# Altium footprint library ZPWL.PcbLib: 168 footprints (part 1 of 11)
Each footprint in its own frame and in the unit in brackets; x right, y up, seen from the top. Pads: shape width x height; smd on the part's side, far side on the other; paste and mask are expansions set on the pad; w line width, h text height; cw(c..) or ccw(c..) is an arc to the next point about the centre after c.
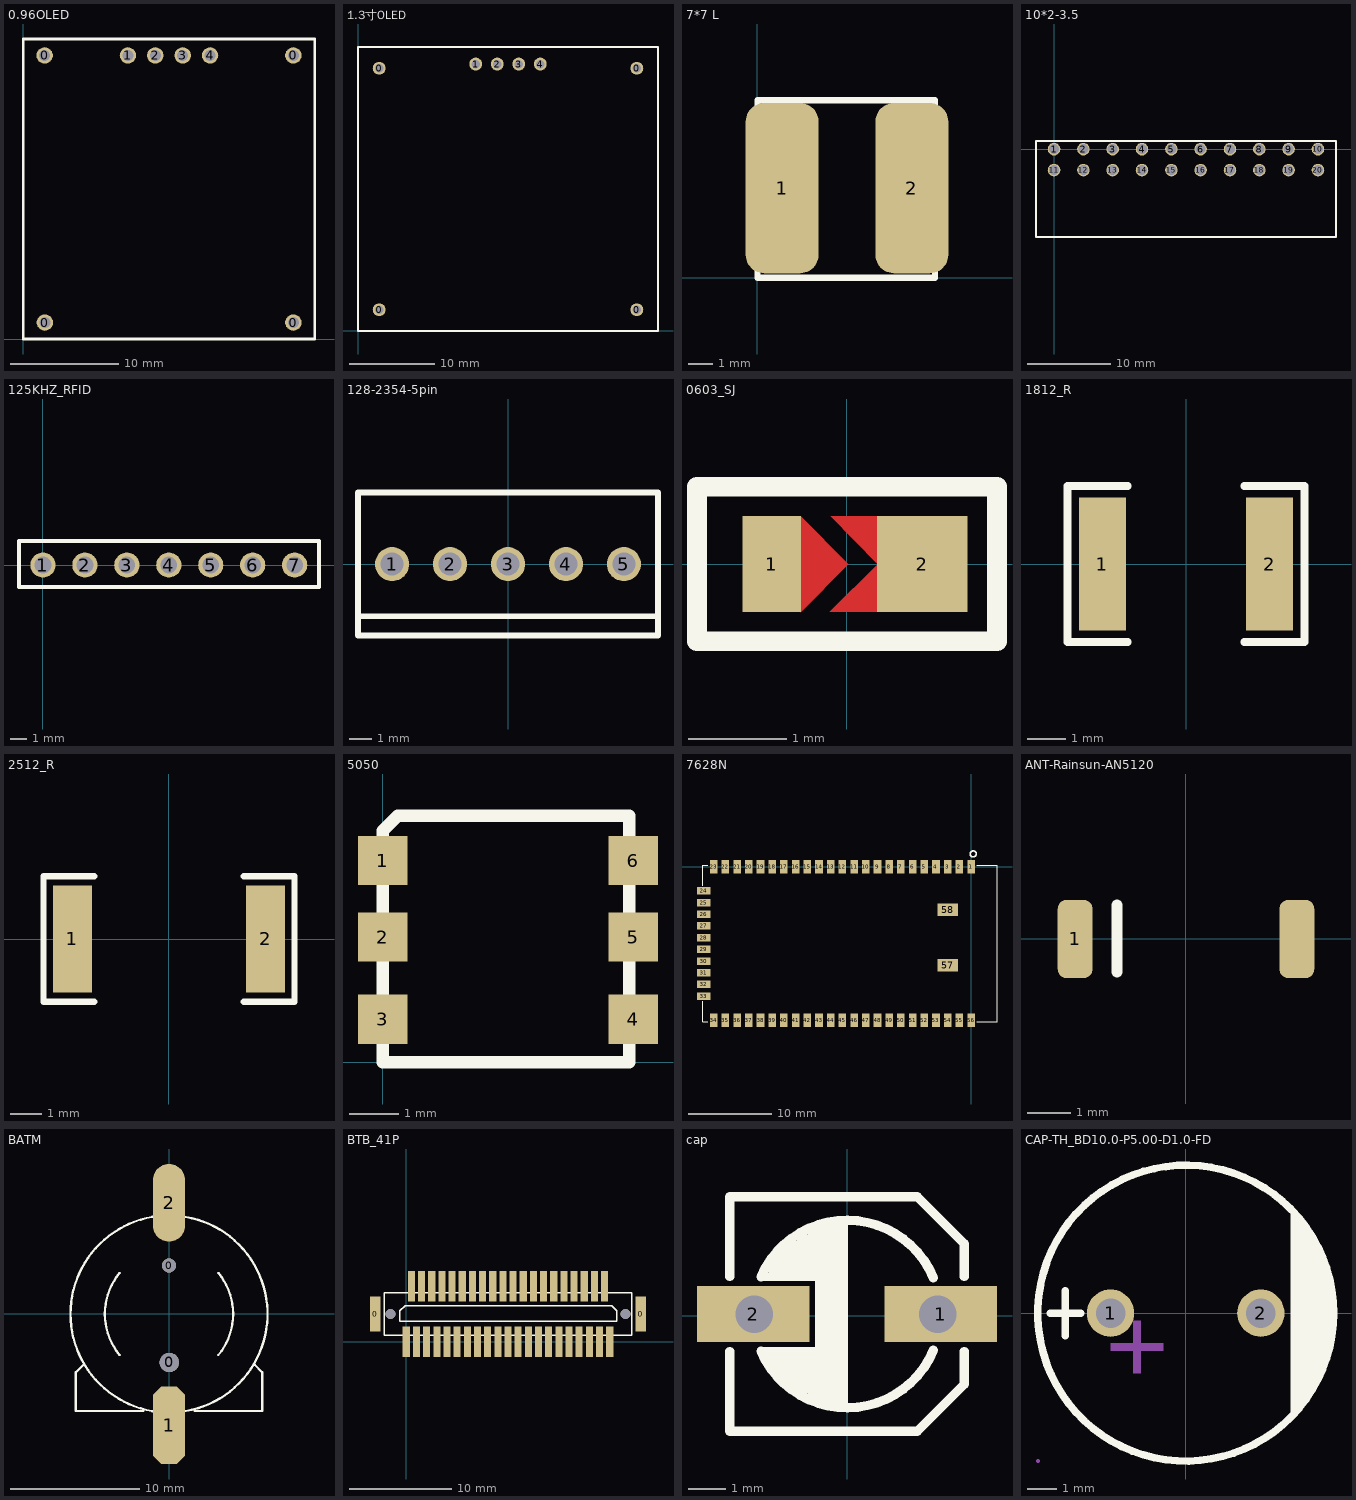
[diagram p0: the footprints below, top view; thin cyan lines are the x and y axes]

## 0.96OLED [mil]
pads (8):
  round 60 hole 40: 0(78,1035) 0(79,60) 0(986,60) 0(986,1035) 1(382,1035) 2(482,1035) 3(582,1035) 4(682,1035)
Top Overlay:
  lines w10: 0,0 0,1095 1064,1095 1064,0 0,0

## 1.3寸OLED [mil]
pads (8):
  round 60 hole 40: 0(98.43,98.43) 0(98.43,1220.47) 0(1295.28,98.43) 0(1295.28,1220.47) 1(546.85,1239.76) 2(646.85,1239.76) 3(746.85,1239.76) 4(846.85,1239.76)
Top Overlay:
  lines w10: 0,0 1393.7,0 1393.7,1318.9 0,1318.9 0,0

## 7*7 L [mm]
pads (2):
  rrect50% 3x7 smd: 1(1.016,3.683) 2(6.35,3.683)
Top Overlay:
  lines w0.254: 0,0 0,7.3 7.3,7.3 7.3,0 0,0

## 10*2-3.5 [mm]
pads (20):
  round 1.5 hole 1.2: 1(0,0) 2(3.5,0) 3(7,0) 4(10.5,0) 5(14,0) 6(17.5,0) 7(21,0) 8(24.5,0) 9(28,0) 10(31.5,0) 11(0,-2.5) 12(3.5,-2.5) 13(7,-2.5) 14(10.5,-2.5) 15(14,-2.5) 16(17.5,-2.5) 17(21,-2.5) 18(24.5,-2.5) 19(28,-2.5) 20(31.5,-2.5)
Top Overlay:
  lines w0.254: -2.15,-10.5 33.65,-10.5 33.65,1 -2.15,1 -2.15,-10.5

## 125KHZ_RFID [mil]
pads (7):
  round 60 hole 40: 1(0,0) 2(100,0) 3(200,0) 4(300,0) 5(400,0) 6(500,0) 7(600,0)
Top Overlay:
  lines w10: -57,-52 -57,57 658,57 658,-52 -57,-52

## 128-2354-5pin [mm]
pads (5):
  round 1.5 hole 1: 1(-5.08,-0.005) 2(-2.54,-0.005) 3(0,-0.005) 4(2.54,-0.005) 5(5.08,-0.005)
Top Overlay:
  lines w0.254: -6.575,-2.286 6.575,-2.286 ; -6.575,-3.135 -6.575,3.135 6.575,3.135 6.575,-3.135 -6.575,-3.135

## 0603_SJ [mm]
pads (2):
  rect 0.6x0.98 smd: 1(-0.77,0)
  rect 0.93x0.98 smd: 2(0.77,0)
Top Layer:
  region: -0.471,-0.494 0.014,-0.004 -0.471,0.486
  region: 0.345,0.49 -0.165,0.49 0.315,0 -0.175,-0.49 0.345,-0.49
Top Overlay:
  lines w0.2: -1.535,-0.79 -1.535,0.79 0.4,0.79 1.535,0.79 1.535,-0.79 0.4,-0.79 -1.535,-0.79
Top Solder:
  rectangle: -0.389,-0.592 0.216,0.592

## 1812_R [mm]
pads (2):
  rect 1.2x3.42 smd: 1(-2.15,0) 2(2.15,0)
Top Overlay:
  lines w0.2: -1.5,-2.01 -3.05,-2.01 -3.05,2.01 -1.5,2.01 ; 1.5,-2.01 3.05,-2.01 3.05,2.01 1.5,2.01
3D body "R1812.STEP": height 0.59, standoff -0.01, extent -2.251,-1.6 2.249,1.6

## 2512_R [mm]
pads (2):
  rect 1.25x3.42 smd: 1(-3.1,0) 2(3.1,0)
Top Overlay:
  lines w0.2: -2.4,-2.01 -4.025,-2.01 -4.025,2.01 -2.4,2.01 ; 2.4,-2.01 4.025,-2.01 4.025,2.01 2.4,2.01
3D body "User Library-res2512_body.STEP": height 0.62, standoff 0, extent -3.159,-1.6 3.16,1.6

## 5050 [mm]
pads (6):
  rect 1x1 smd: 1(0,4.089) 2(0,2.54) 3(0,0.876) 4(5.08,0.876) 5(5.08,2.54) 6(5.08,4.089)
Top Overlay:
  lines w0.254: 0,0 0,4.689 0.311,5 5,5 5,0 0,0

## 7628N [mm]
height 2.5
pads (58):
  rect 0.9x1.6 smd: 1(0,0) 2(-1.4,0) 3(-2.8,0) 4(-4.2,0) 5(-5.6,0) 6(-7,0) 7(-8.4,0) 8(-9.8,0) 9(-11.2,0) 10(-12.6,0) 11(-14,0) 12(-15.4,0) 13(-16.8,0) 14(-18.2,0) 15(-19.6,0) 16(-21,0) 17(-22.4,0) 18(-23.8,0) 19(-25.2,0) 20(-26.6,0) 21(-28,0) 22(-29.4,0) 23(-30.8,0) 34(-30.8,-18.4) 35(-29.4,-18.4) 36(-28,-18.4) 37(-26.6,-18.4) 38(-25.2,-18.4) 39(-23.8,-18.4) 40(-22.4,-18.4) 41(-21,-18.4) 42(-19.6,-18.4) 43(-18.2,-18.4) 44(-16.8,-18.4) 45(-15.4,-18.4) 46(-14,-18.4) 47(-12.6,-18.4) 48(-11.2,-18.4) 49(-9.8,-18.4) 50(-8.4,-18.4) 51(-7,-18.4) 52(-5.6,-18.4) 53(-4.2,-18.4) 54(-2.8,-18.4) 55(-1.4,-18.4) 56(0,-18.4)
  rect 1.6x0.9 smd: 24(-32,-2.9) 25(-32,-4.3) 26(-32,-5.7) 27(-32,-7.1) 28(-32,-8.5) 29(-32,-9.9) 30(-32,-11.3) 31(-32,-12.7) 32(-32,-14.1) 33(-32,-15.5)
  rect 2.5x1.5 smd: 57(-2.8,-11.773) 58(-2.8,-5.173)
Top Layer:
  lines w0.15: -30.8,-18.4 -30.8,-18.4
Top Overlay:
  circle w0.15: c0.254,1.524 r0.359
  lines w0.1: -32.131,-16.129 -32.131,-18.542 -31.496,-18.542 ; -32.131,-2.271 -32.131,0.142 -31.496,0.142 ; 0.696,-18.557 3.1,-18.557 3.1,0.142 0.696,0.142

## ANT-Rainsun-AN5120 [mm]
pads (2):
  rrect50% 0.8x1.8 smd: 1(-2.54,0) ""(2.563,0)
Top Overlay:
  lines w0.254: -1.575,-0.762 -1.575,0.787
3D body "123.stp": height 1.32, standoff -0.01, extent -2.573,-0.911 2.542,0.935

## BATM [mm]
pads (4):
  round 1.1 hole 1.1 unplated: 0(0,3.748)
  round 1.5 hole 1.5 unplated: 0(0.025,-3.752)
  oct 2.5x6 smd: 1(0,-8.602)
  oval 2.5x6 smd: 2(0,8.598)
Top Overlay:
  lines w0.178: -6.6,-3.902 -7.2,-4.502 -7.2,-7.502 -2,-7.502 ; -3.815,-3.171 cw(c0,-0.002) -3.812,3.171 ; -0.833,-7.576 cw(c0,-0.002) -7.62,-0.002 cw(c0,-0.002) -0.833,7.573 ; 0.833,-7.576 ccw(c0,-0.002) 0.833,7.573 ; 2,-7.502 7.2,-7.502 7.2,-4.502 6.625,-3.927 ; 3.81,-3.177 ccw(c0,-0.002) 3.812,3.171

## BTB_41P [mm]
pads (43):
  rect 1x3.4 smd: 0(-3.05,2.75) 0(23.05,2.75)
  rect 0.7x3 smd: 1(0,0) 2(0.5,5.5) 3(1,0) 4(1.5,5.5) 5(2,0) 6(2.5,5.5) 7(3,0) 8(3.5,5.5) 9(4,0) 10(4.5,5.5) 11(5,0) 12(5.5,5.5) 13(6,0) 14(6.5,5.5) 15(7,0) 16(7.5,5.5) 17(8,0) 18(8.5,5.5) 19(9,0) 20(9.5,5.5) 21(10,0) 22(10.5,5.5) 23(11,0) 24(11.5,5.5) 25(12,0) 26(12.5,5.5) 27(13,0) 28(13.5,5.5) 29(14,0) 30(14.5,5.5) 31(15,0) 32(15.5,5.5) 33(16,0) 34(16.5,5.5) 35(17,0) 36(17.5,5.5) 37(18,0) 38(18.5,5.5) 39(19,0) 40(19.5,5.5) 41(20,0)
via -1.55,2.75 diameter 1 hole 1
via 21.55,2.75 diameter 1 hole 1
Top Overlay:
  lines w0.127: -2.15,0.65 -2.15,4.85 22.15,4.85 22.15,0.65 -2.15,0.65 ; -0.626,2.056 20.71,2.056 20.71,3.072 20.202,3.58 -0.118,3.58 -0.626,3.072 -0.626,2.056

## cap [mil]
pads (2):
  rect 120x60 smd: 1(100,2) 2(-100,2)
via -99,2 diameter 60 hole 40
via 97,2 diameter 60 hole 40
Top Overlay:
  region: -84,46 -87,46 -87,40.81 -84,40.81
  region: -84,40.81 -91.16,40.81 -91.16,37 -84,37
  region: -67,65 -80,65 -80,52 -67,52
  region: -54,80 -63,80 -63,72 -54,72
  region: -34,91 -42,91 -42,87 -34,87
  region: -84,-33 -92.16,-33 -92.16,-43 -84,-43
  region: -66,-53 -78,-53 -78,-65 -66,-65
  region: -49,-73 -57,-73 -57,-79 -49,-79
  region: -34,-83 -42,-83 -42,-88 -34,-88
  region: -34,37 -34,55 -84,55 -84,37
  region: -34,52 -34,74 -74,74 -74,52
  region: -34,72 -34,87 -54,87 -54,72
  region: -69,-33 -84,-33 -84,-53 -69,-53
  region: -49,-33 -69,-33 -69,-75 -49,-75
  region: -34,-33 -49,-33 -49,-83 -34,-83
  region: 1,97 -34,97 -34,-93 1,-93
  lines w10: -125,-38 -125,-123 75,-123 125,-73 125,-38 ; -125,42 -125,127 75,127 125,77 125,42 ; -91.71,-37.87 ccw(c0,2) 92.16,-36.81 ; -91.71,41.87 cw(c0,2) 92.16,40.81

## CAP-TH_BD10.0-P5.00-D1.0-FD [mm]
pads (2):
  round 1.6 hole 1 paste+0.051: 1(-2.54,0) 2(2.54,0)
Top Overlay:
  circle w0.254: c0,0 r5
  region: 3.556,3.556 3.556,-3.556 4.318,-2.54 4.826,-1.016 5.08,0.508 4.826,1.524
  lines w0.254: -4.572,0 -3.556,0 ; -4.064,-0.762 -4.064,0.762
Mechanical 2:
  region: -2.54,-1.016 -0.762,-1.016 -0.762,-1.27 -2.54,-1.27
  region: -1.778,-0.762 -1.778,-2.032 -1.524,-2.032 -1.524,-0.254 -1.778,-0.254
Mechanical 6:
  lines w0.051: -5,0 cw(c0,0) 5,0 cw(c0,0) -5,0
Mechanical 8:
  region: -4.94,-5 -4.94,-5.025 -4.975,-5.06 -5.025,-5.06 -5.06,-5.025 -5.06,-5 -5.06,-4.975 -5.025,-4.94 -4.975,-4.94 -4.94,-4.975 -4.94,-5
Mechanical 9:
  region: 2.84,0 2.84,-0.06 2.794,-0.17 2.71,-0.254 2.6,-0.3 2.48,-0.3 2.37,-0.254 2.286,-0.17 2.24,-0.06 2.24,0 2.24,0.06 2.286,0.17 2.37,0.254 2.48,0.3 2.6,0.3 2.71,0.254 2.794,0.17 2.84,0.06 2.84,0
  region: -2.24,0 -2.24,-0.06 -2.286,-0.17 -2.37,-0.254 -2.48,-0.3 -2.6,-0.3 -2.71,-0.254 -2.794,-0.17 -2.84,-0.06 -2.84,0 -2.84,0.06 -2.794,0.17 -2.71,0.254 -2.6,0.3 -2.48,0.3 -2.37,0.254 -2.286,0.17 -2.24,0.06 -2.24,0
3D body "电容D10x17.STEP": height 16.11, standoff -3.3, extent -5.031,-4.946 4.979,5.055